# Altium schematic symbol library SCH - MCU - NUVOTON - NUVOTON M058SSAN.SchLib: 1 symbol
Pins are listed as number, name and electrical type; pins without a type are passive.

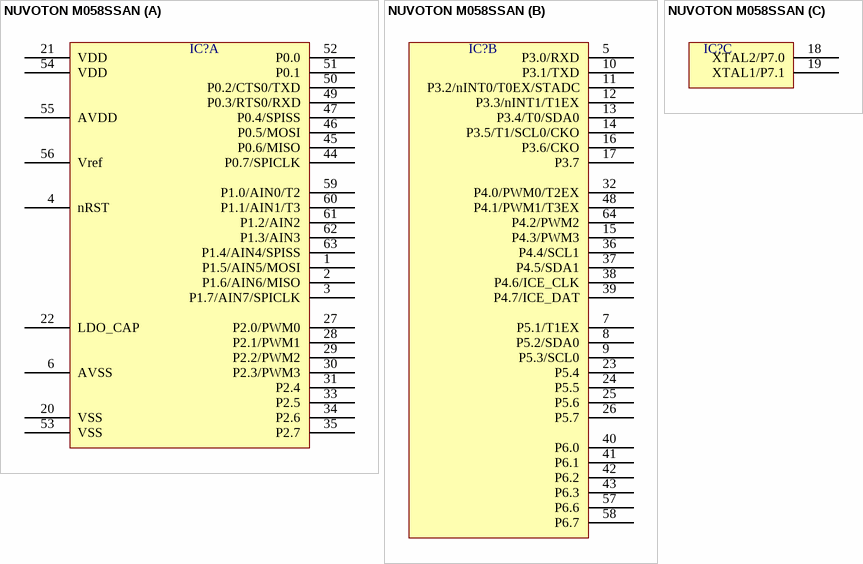
[diagram p0: symbol NUVOTON M058SSAN]

## NUVOTON M058SSAN
designator IC?  (value not drawn)
part A pins: 1 P1.5/AIN5/MOSI, 2 P1.6/AIN6/MISO, 3 P1.7/AIN7/SPICLK, 4 nRST, 6 AVSS, 20 VSS, 21 VDD, 22 LDO_CAP, 27 P2.0/PWM0, 28 P2.1/PWM1, 29 P2.2/PWM2, 30 P2.3/PWM3, 31 P2.4, 33 P2.5, 34 P2.6, 35 P2.7, 44 P0.7/SPICLK, 45 P0.6/MISO, 46 P0.5/MOSI, 47 P0.4/SPISS, 49 P0.3/RTS0/RXD, 50 P0.2/CTS0/TXD, 51 P0.1, 52 P0.0, 53 VSS, 54 VDD, 55 AVDD, 56 Vref, 59 P1.0/AIN0/T2, 60 P1.1/AIN1/T3, 61 P1.2/AIN2, 62 P1.3/AIN3, 63 P1.4/AIN4/SPISS
part B pins: 5 P3.0/RXD, 7 P5.1/T1EX, 8 P5.2/SDA0, 9 P5.3/SCL0, 10 P3.1/TXD, 11 P3.2/nINT0/T0EX/STADC, 12 P3.3/nINT1/T1EX, 13 P3.4/T0/SDA0, 14 P3.5/T1/SCL0/CKO, 15 P4.3/PWM3, 16 P3.6/CKO, 17 P3.7, 23 P5.4, 24 P5.5, 25 P5.6, 26 P5.7, 32 P4.0/PWM0/T2EX, 36 P4.4/SCL1, 37 P4.5/SDA1, 38 P4.6/ICE_CLK, 39 P4.7/ICE_DAT, 40 P6.0, 41 P6.1, 42 P6.2, 43 P6.3, 48 P4.1/PWM1/T3EX, 57 P6.6, 58 P6.7, 64 P4.2/PWM2
part C pins: 18 XTAL2/P7.0, 19 XTAL1/P7.1